# Altium schematic symbol library IC.SchLib: 97 symbols
Pins are listed as number, name and electrical type; pins without a type are passive.

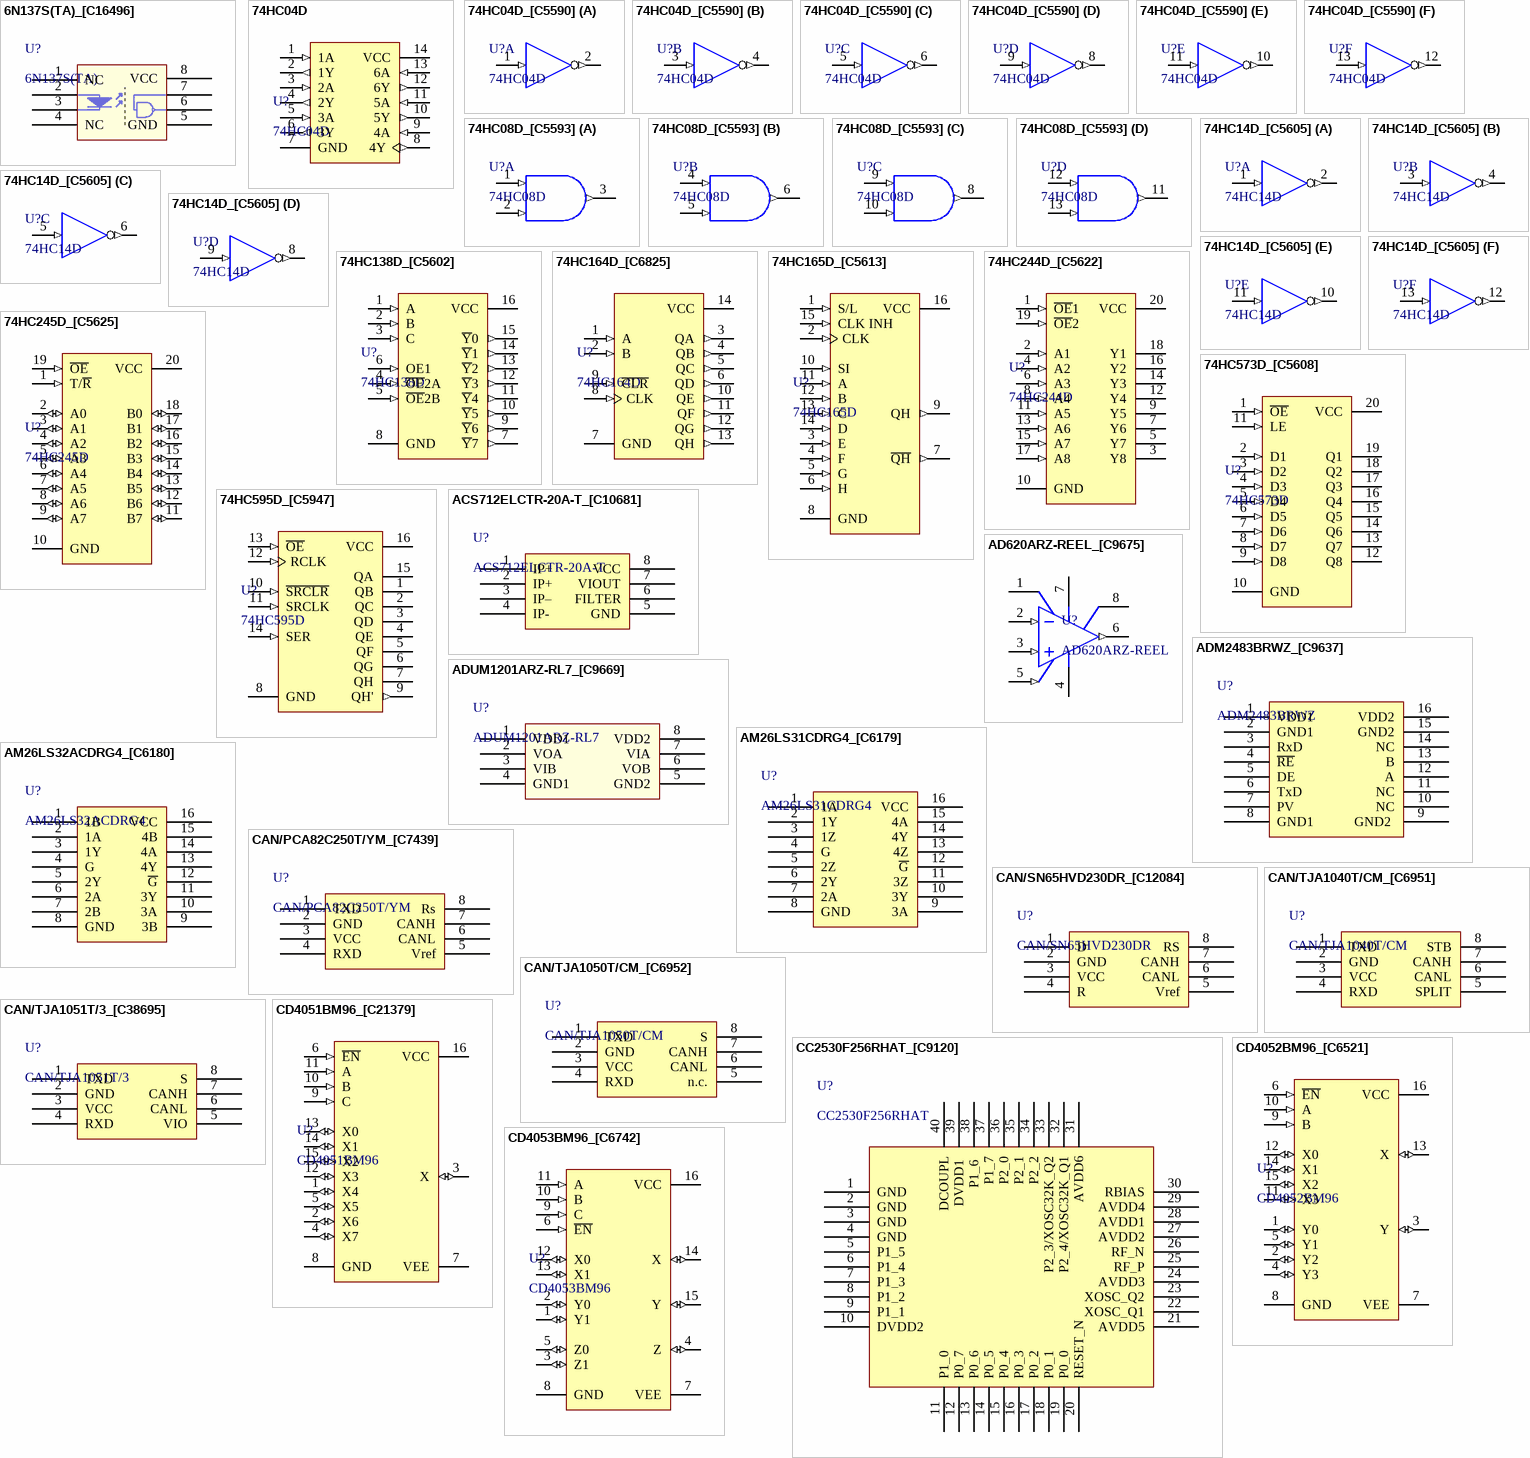
[diagram p0: symbols 6N137S(TA)_[C16496] to CD4053BM96_[C6742]]

## 6N137S(TA)_[C16496]
designator U?, comment 6N137S(TA)
贴片光耦; ComponentLink1Description: 供应商链接; ComponentLink1URL: http://www.szlcsc.com/product/details_17178.html; Package: SMD-8_6.3mm; Supplier: LC; SuppliersPartNumber: C16496
footprint SMD-8_6.3mm
pins: 1 NC, 2 A "Anode", 3 K "Cathode", 4 NC, 5 GND, 6 VO, 7 VE, 8 VCC

## 74HC04D
designator U?
74系列逻辑芯片,反相器; ComponentLink1Description: 供应商链接; ComponentLink1URL: http://www.szlcsc.com/product/details_7297.html; Package: SOIC-14_150mil; Supplier: LC; SuppliersPartNumber: C6825
footprint SOIC-14_150mil
pins: 1 1A (in), 2 1Y (out), 3 2A (in), 4 2Y (out), 5 3A (in), 6 3Y (out), 7 GND (power), 8 4Y (out), 9 4A (in), 10 5Y (out), 11 5A (in), 12 6Y (out), 13 6A (in), 14 VCC (power)

## 74HC04D_[C5590]
designator U?, comment 74HC04D
74系列逻辑芯片; ComponentLink1Description: 供应商链接; ComponentLink1URL: http://www.szlcsc.com/product/details_6041.html; Package: SOIC-14_150mil; Supplier: LC; SuppliersPartNumber: C5590
footprint SOIC-14_150mil
pins on every part: 7 GND (power) hidden, 14 VDD (power) hidden
part A pins: 1 A (in), 2 Y (out)
part B pins: 3 A (in), 4 Y (out)
part C pins: 5 A (in), 6 Y (out)
part D pins: 8 Y (out), 9 A (in)
part E pins: 10 Y (out), 11 A (in)
part F pins: 12 Y (out), 13 A (in)

## 74HC08D_[C5593]
designator U?, comment 74HC08D
74系列逻辑芯片; ComponentLink1Description: 供应商链接; ComponentLink1URL: http://www.szlcsc.com/product/details_6044.html; Package: SOIC-14_150mil; Supplier: LC; SuppliersPartNumber: C5593
footprint SOIC-14_150mil
pins on every part: 7 GND (power) hidden, 14 VDD (power) hidden
part A pins: 1 A (in), 2 B (in), 3 Y (out)
part B pins: 4 A (in), 5 B (in), 6 Y (out)
part C pins: 8 Y (out), 9 A (in), 10 B (in)
part D pins: 11 Y (out), 12 A (in), 13 B (in)

## 74HC14D_[C5605]
designator U?, comment 74HC14D
74系列逻辑芯片; ComponentLink1Description: 供应商链接; ComponentLink1URL: http://www.szlcsc.com/product/details_6056.html; Package: SOIC-14_150mil; Supplier: LC; SuppliersPartNumber: C5605
footprint SOIC-14_150mil
pins on every part: 7 GND (power) hidden, 14 VDD (power) hidden
part A pins: 1 A (in), 2 Y (out)
part B pins: 3 A (in), 4 Y (out)
part C pins: 5 A (in), 6 Y (out)
part D pins: 8 Y (out), 9 A (in)
part E pins: 10 Y (out), 11 A (in)
part F pins: 12 Y (out), 13 A (in)

## 74HC138D_[C5602]
designator U?, comment 74HC138D
74系列逻辑芯片; ComponentLink1Description: 供应商链接; ComponentLink1URL: http://www.szlcsc.com/product/details_6053.html; Package: SOIC-16_150mil; Supplier: LC; SuppliersPartNumber: C5602
footprint SOIC-16_150mil
pins: 1 A (in), 2 B (in), 3 C (in), 4 ~{OE}2A (in), 5 ~{OE}2B (in), 6 OE1 (in), 7 ~{Y}7 (out), 8 GND (power), 9 ~{Y}6 (out), 10 ~{Y}5 (out), 11 ~{Y}4 (out), 12 ~{Y}3 (out), 13 ~{Y}2 (out), 14 ~{Y}1 (out), 15 ~{Y}0 (out), 16 VCC (power)

## 74HC164D_[C6825]
designator U?, comment 74HC164D
74系列逻辑芯片; ComponentLink1Description: 供应商链接; ComponentLink1URL: http://www.szlcsc.com/product/details_7297.html; Package: SOIC-14_150mil; Supplier: LC; SuppliersPartNumber: C6825
footprint SOIC-14_150mil
pins: 1 A (in), 2 B (in), 3 QA (out), 4 QB (out), 5 QC (out), 6 QD (out), 7 GND (power), 8 CLK (in), 9 ~{CLR} (in), 10 QE (out), 11 QF (out), 12 QG (out), 13 QH (out), 14 VCC (power)

## 74HC165D_[C5613]
designator U?, comment 74HC165D
74系列逻辑芯片; ComponentLink1Description: 供应商链接; ComponentLink1URL: http://www.szlcsc.com/product/details_6064.html; Package: SOIC-16_150mil; Supplier: LC; SuppliersPartNumber: C5613
footprint SOIC-16_150mil
pins: 1 S/L (in), 2 CLK (in), 3 E (in), 4 F (in), 5 G (in), 6 H (in), 7 ~{QH} (out), 8 GND (power), 9 QH (out), 10 SI (in), 11 A (in), 12 B (in), 13 C (in), 14 D (in), 15 CLK INH (in), 16 VCC (power)

## 74HC244D_[C5622]
designator U?, comment 74HC244D
74系列逻辑芯片; ComponentLink1Description: 供应商链接; ComponentLink1URL: http://www.szlcsc.com/product/details_6073.html; Package: SOIC-20_300mil; Supplier: LC; SuppliersPartNumber: C5622
footprint SOIC-20_300mil
pins: 1 ~{OE}1 (in), 2 A1 (in), 3 Y8 (hiz), 4 A2 (in), 5 Y7 (hiz), 6 A3 (in), 7 Y6 (hiz), 8 A4 (in), 9 Y5 (hiz), 10 GND (power), 11 A5 (in), 12 Y4 (hiz), 13 A6 (in), 14 Y3 (hiz), 15 A7 (in), 16 Y2 (hiz), 17 A8 (in), 18 Y1 (hiz), 19 ~{OE}2 (in), 20 VCC (power)

## 74HC245D_[C5625]
designator U?, comment 74HC245D
74系列逻辑芯片; ComponentLink1Description: 供应商链接; ComponentLink1URL: http://www.szlcsc.com/product/details_6076.html; Package: SOIC-20_300mil; Supplier: LC; SuppliersPartNumber: C5625
footprint SOIC-20_300mil
pins: 1 T/~{R} (in), 2 A0 (io), 3 A1 (io), 4 A2 (io), 5 A3 (io), 6 A4 (io), 7 A5 (io), 8 A6 (io), 9 A7 (io), 10 GND (power), 11 B7 (io), 12 B6 (io), 13 B5 (io), 14 B4 (io), 15 B3 (io), 16 B2 (io), 17 B1 (io), 18 B0 (io), 19 ~{OE} (in), 20 VCC (power)

## 74HC573D_[C5608]
designator U?, comment 74HC573D
74系列逻辑芯片; ComponentLink1Description: 供应商链接; ComponentLink1URL: http://www.szlcsc.com/product/details_6059.html; Package: SOIC-20_300mil; Supplier: LC; SuppliersPartNumber: C5608
footprint SOIC-20_300mil
pins: 1 ~{OE} (in), 2 D1 (in), 3 D2 (in), 4 D3 (in), 5 D4 (in), 6 D5 (in), 7 D6 (in), 8 D7 (in), 9 D8 (in), 10 GND (power), 11 LE (in), 12 Q8 (hiz), 13 Q7 (hiz), 14 Q6 (hiz), 15 Q5 (hiz), 16 Q4 (hiz), 17 Q3 (hiz), 18 Q2 (hiz), 19 Q1 (hiz), 20 VCC (power)

## 74HC595D_[C5947]
designator U?, comment 74HC595D
74系列逻辑芯片; ComponentLink1Description: 供应商链接; ComponentLink1URL: http://www.szlcsc.com/product/details_6413.html; Package: SOIC-16_150mil; Supplier: LC; SuppliersPartNumber: C5947
footprint SOIC-16_150mil
pins: 1 QB (hiz), 2 QC (hiz), 3 QD (hiz), 4 QE (hiz), 5 QF (hiz), 6 QG (hiz), 7 QH (hiz), 8 GND (power), 9 QH' (out), 10 ~{SRCLR} (in), 11 SRCLK (in), 12 RCLK (in), 13 ~{OE} (in), 14 SER (in), 15 QA (hiz), 16 VCC (power)

## ACS712ELCTR-20A-T_[C10681]
designator U?, comment ACS712ELCTR-20A-T
传感器; ComponentLink1Description: 供应商链接; ComponentLink1URL: http://www.szlcsc.com/product/details_11225.html; Package: SOIC-8_150mil; Supplier: LC; SuppliersPartNumber: C10681
footprint SOIC-8_150mil
pins: 1 IP+, 2 IP+, 3 IP–, 4 IP-, 5 GND, 6 FILTER, 7 VIOUT, 8 VCC

## AD620ARZ-REEL_[C9675]
designator U?, comment AD620ARZ-REEL
仪放; ComponentLink1Description: 供应商链接; ComponentLink1URL: http://www.szlcsc.com/product/details_10205.html; Package: SOIC-8_150mil; Supplier: LC; SuppliersPartNumber: C9675
footprint SOIC-8_150mil
pins: 1 RG, 2 -IN (in), 3 +IN (in), 4 V- (power), 5 REF (in), 6 OUT (out), 7 V+ (power), 8 RG

## ADM2483BRWZ_[C9637]
designator U?, comment ADM2483BRWZ
接口芯片; ComponentLink1Description: 供应商链接; ComponentLink1URL: http://www.szlcsc.com/product/details_10167.html; Package: SOIC-16_300mil; Supplier: LC; SuppliersPartNumber: C9637
footprint SOIC-16_300mil
pins: 1 VDD1, 2 GND1, 3 RxD, 4 ~{RE}, 5 DE, 6 TxD, 7 PV, 8 GND1 , 9 GND2 , 10 NC, 11 NC, 12 A, 13 B, 14 NC, 15 GND2, 16 VDD2

## ADUM1201ARZ-RL7_[C9669]
designator U?, comment ADUM1201ARZ-RL7
隔离器; ComponentLink1Description: 供应商链接; ComponentLink1URL: http://www.szlcsc.com/product/details_10199.html; Package: SOIC-8_150mil; Supplier: LC; SuppliersPartNumber: C9669
footprint SOIC-8_150mil
pins: 1 VDD1 , 2 VOA, 3 VIB, 4 GND1, 5 GND2, 6 VOB, 7 VIA, 8 VDD2

## AM26LS31CDRG4_[C6179]
designator U?, comment AM26LS31CDRG4
接口芯片; ComponentLink1Description: 供应商链接; ComponentLink1URL: http://www.szlcsc.com/product/details_6645.html; Package: SOIC-16_150mil; Supplier: LC; SuppliersPartNumber: C6179
footprint SOIC-16_150mil
pins: 1 1A, 2 1Y, 3 1Z, 4 G, 5 2Z, 6 2Y, 7 2A, 8 GND, 9 3A, 10 3Y, 11 3Z, 12 ~{G}, 13 4Z, 14 4Y, 15 4A, 16 VCC

## AM26LS32ACDRG4_[C6180]
designator U?, comment AM26LS32ACDRG4
接口芯片; ComponentLink1Description: 供应商链接; ComponentLink1URL: http://www.szlcsc.com/product/details_6646.html; Package: SOIC-16_150mil; Supplier: LC; SuppliersPartNumber: C6180
footprint SOIC-16_150mil
pins: 1 1B, 2 1A, 3 1Y, 4 G, 5 2Y, 6 2A, 7 2B, 8 GND, 9 3B, 10 3A, 11 3Y, 12 ~{G}, 13 4Y, 14 4A, 15 4B, 16 VCC

## CAN/PCA82C250T/YM_[C7439]
designator U?, comment CAN/PCA82C250T/YM
CAN; ComponentLink1Description: 供应商链接; ComponentLink1URL: http://www.szlcsc.com/product/details_7916.html; Package: SOIC-8_150mil; Supplier: LC; SuppliersPartNumber: C7439
footprint SOIC-8_150mil
pins: 1 TXD, 2 GND, 3 VCC, 4 RXD, 5 Vref, 6 CANL, 7 CANH, 8 Rs

## CAN/SN65HVD230DR_[C12084]
designator U?, comment CAN/SN65HVD230DR
CAN; ComponentLink1Description: 供应商链接; ComponentLink1URL: http://www.szlcsc.com/product/details_12661.html; Package: SOIC-8_150mil; Supplier: LC; SuppliersPartNumber: C12084
footprint SOIC-8_150mil
pins: 1 D, 2 GND, 3 VCC, 4 R, 5 Vref, 6 CANL, 7 CANH, 8 RS

## CAN/TJA1040T/CM_[C6951]
designator U?, comment CAN/TJA1040T/CM
CAN; ComponentLink1Description: 供应商链接; ComponentLink1URL: http://www.szlcsc.com/product/details_7423.html; Package: SOIC-8_150mil; Supplier: LC; SuppliersPartNumber: C6951
footprint SOIC-8_150mil
pins: 1 TXD, 2 GND, 3 VCC, 4 RXD, 5 SPLIT, 6 CANL, 7 CANH, 8 STB

## CAN/TJA1050T/CM_[C6952]
designator U?, comment CAN/TJA1050T/CM
CAN; ComponentLink1Description: 供应商链接; ComponentLink1URL: http://www.szlcsc.com/product/details_7424.html; Package: SOIC-8_150mil; Supplier: LC; SuppliersPartNumber: C6952
footprint SOIC-8_150mil
pins: 1 TXD, 2 GND, 3 VCC, 4 RXD, 5 n.c., 6 CANL, 7 CANH, 8 S

## CAN/TJA1051T/3_[C38695]
designator U?, comment CAN/TJA1051T/3
CAN; ComponentLink1Description: 供应商链接; ComponentLink1URL: http://www.szlcsc.com/product/details_39678.html; Package: SOIC-8_150mil; Supplier: LC; SuppliersPartNumber: C38695
footprint SOIC-8_150mil
pins: 1 TXD, 2 GND, 3 VCC, 4 RXD, 5 VIO, 6 CANL, 7 CANH, 8 S

## CC2530F256RHAT_[C9120]
designator U?, comment CC2530F256RHAT
无线; ComponentLink1Description: 供应商链接; ComponentLink1URL: http://www.szlcsc.com/product/details_9643.html; Package: QFN-40_6x6x05P; Supplier: LC; SuppliersPartNumber: C9120
footprint QFN-40_6x6x05P
pins: 1 GND, 2 GND, 3 GND, 4 GND, 5 P1_5, 6 P1_4, 7 P1_3, 8 P1_2, 9 P1_1, 10 DVDD2, 11 P1_0, 12 P0_7, 13 P0_6, 14 P0_5, 15 P0_4, 16 P0_3, 17 P0_2, 18 P0_1, 19 P0_0, 20 RESET_N, 21 AVDD5, 22 XOSC_Q1, 23 XOSC_Q2, 24 AVDD3, 25 RF_P, 26 RF_N, 27 AVDD2, 28 AVDD1, 29 AVDD4, 30 RBIAS, 31 AVDD6, 32 P2_4/XOSC32K_Q1, 33 P2_3/XOSC32K_Q2, 34 P2_2, 35 P2_1, 36 P2_0, 37 P1_7, 38 P1_6 , 39 DVDD1 , 40 DCOUPL

## CD4051BM96_[C21379]
designator U?, comment CD4051BM96
4000系列逻辑芯片; ComponentLink1Description: 供应商链接; ComponentLink1URL: http://www.szlcsc.com/product/details_22096.html; Package: SOIC-16_150mil; Supplier: LC; SuppliersPartNumber: C21379
footprint SOIC-16_150mil
pins: 1 X4 (io), 2 X6 (io), 3 X (io), 4 X7 (io), 5 X5 (io), 6 ~{EN} (in), 7 VEE (power), 8 GND (power), 9 C (in), 10 B (in), 11 A (in), 12 X3 (io), 13 X0 (io), 14 X1 (io), 15 X2 (io), 16 VCC (power)

## CD4052BM96_[C6521]
designator U?, comment CD4052BM96
4000系列逻辑芯片; ComponentLink1Description: 供应商链接; ComponentLink1URL: http://www.szlcsc.com/product/details_6986.html; Package: SOIC-16_150mil; Supplier: LC; SuppliersPartNumber: C6521
footprint SOIC-16_150mil
pins: 1 Y0 (io), 2 Y2 (io), 3 Y (io), 4 Y3 (io), 5 Y1 (io), 6 ~{EN} (in), 7 VEE (power), 8 GND (power), 9 B (in), 10 A (in), 11 X3 (io), 12 X0 (io), 13 X (io), 14 X1 (io), 15 X2 (io), 16 VCC (power)

## CD4053BM96_[C6742]
designator U?, comment CD4053BM96
4000系列逻辑芯片; ComponentLink1Description: 供应商链接; ComponentLink1URL: http://www.szlcsc.com/product/details_7208.html; Package: SOIC-16_150mil; Supplier: LC; SuppliersPartNumber: C6742
footprint SOIC-16_150mil
pins: 1 Y1 (io), 2 Y0 (io), 3 Z1 (io), 4 Z (io), 5 Z0 (io), 6 ~{EN} (in), 7 VEE (power), 8 GND (power), 9 C (in), 10 B (in), 11 A (in), 12 X0 (io), 13 X1 (io), 14 X (io), 15 Y (io), 16 VCC (power)

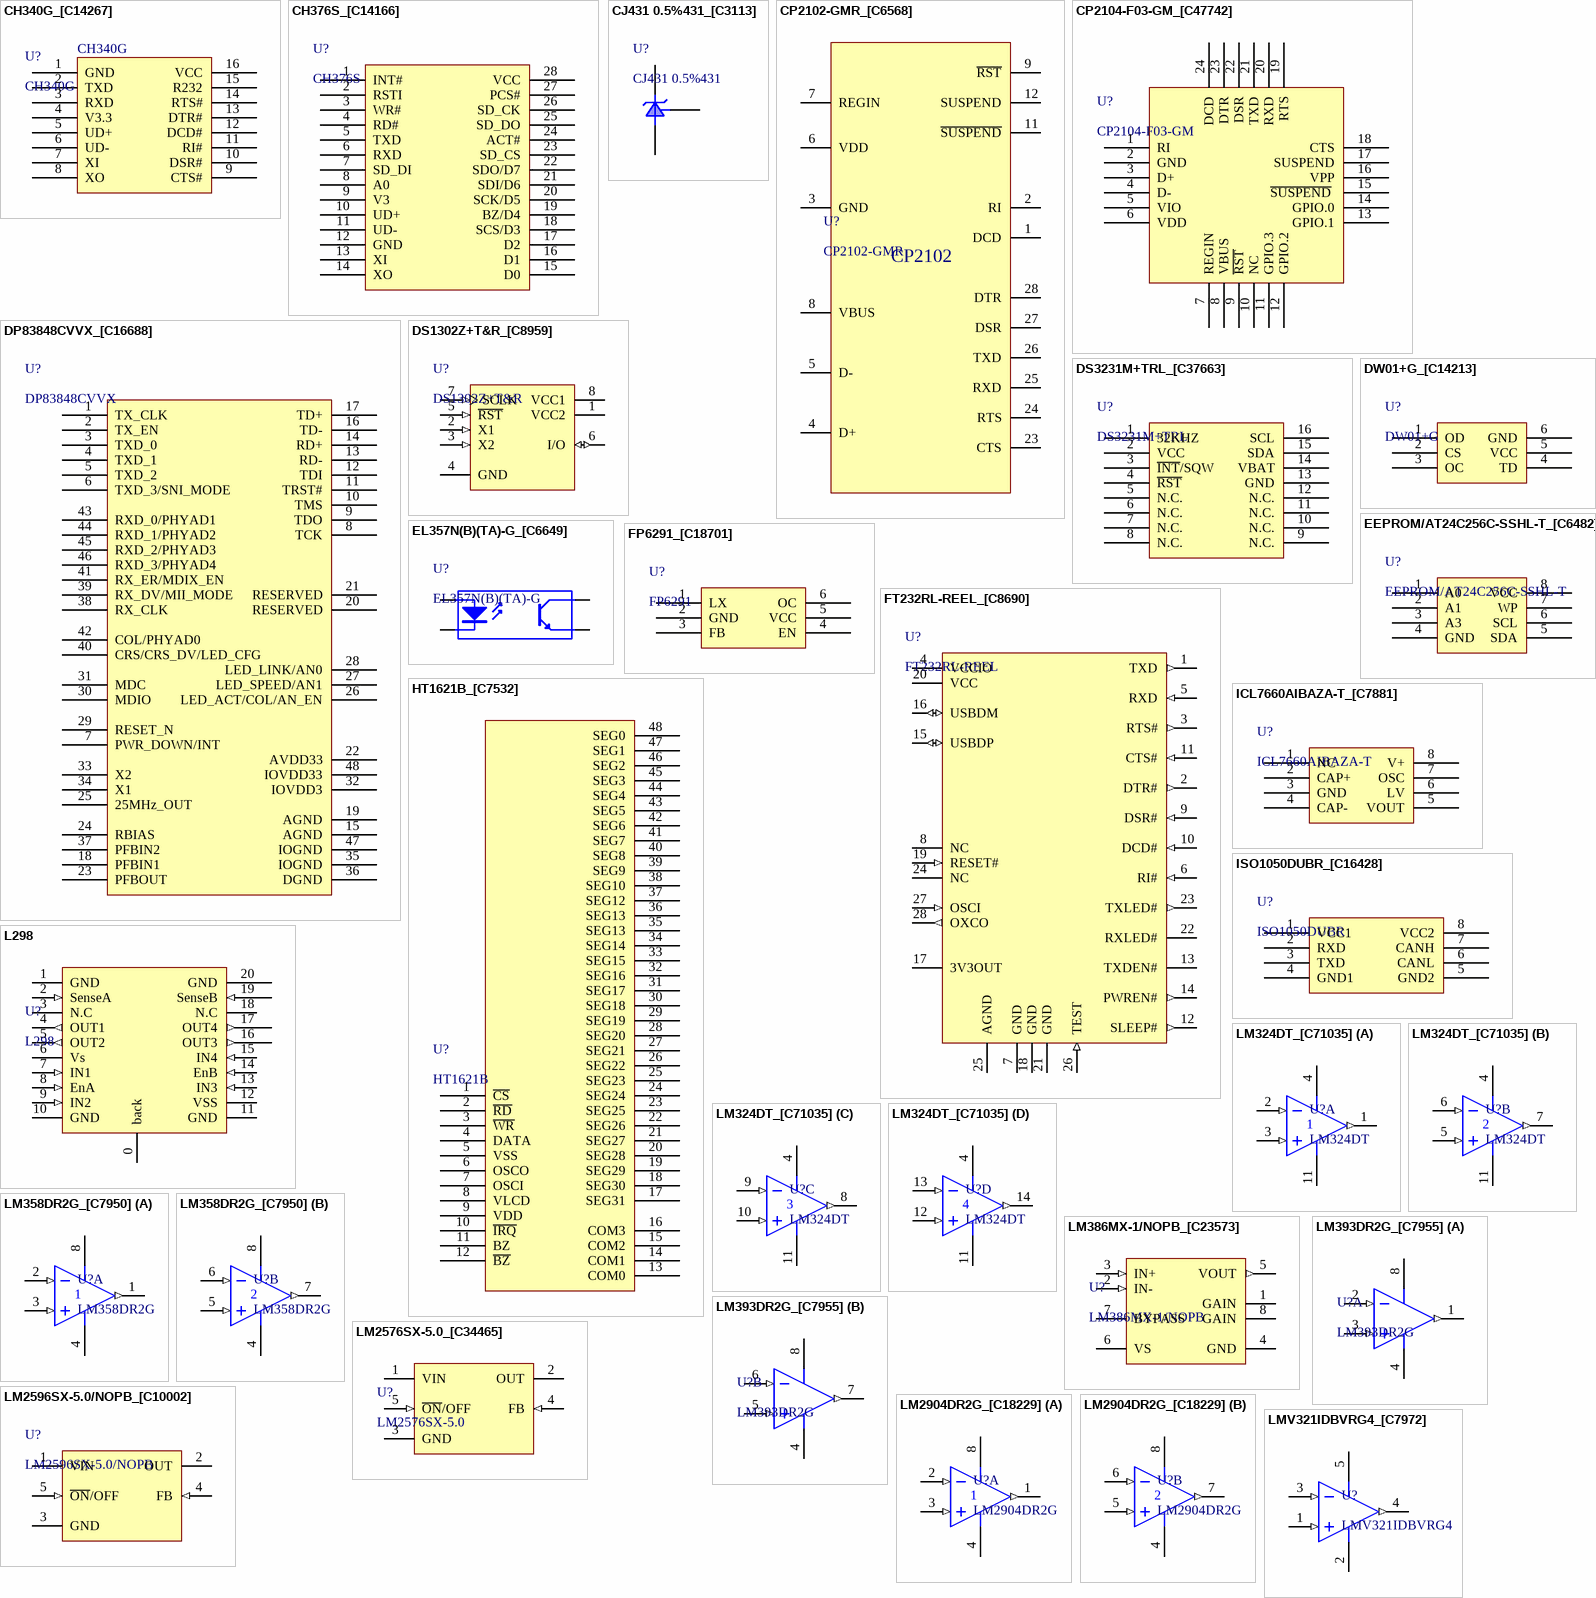
[diagram p1: symbols CH340G_[C14267] to LMV321IDBVRG4_[C7972]]

## CH340G_[C14267]
designator U?, comment CH340G
USB; ComponentLink1Description: 供应商链接; ComponentLink1URL: http://www.szlcsc.com/product/details_14927.html; Package: SOIC-16_150mil; Supplier: LC; SuppliersPartNumber: C14267
footprint SOIC-16_150mil
pins: 1 GND, 2 TXD, 3 RXD, 4 V3.3, 5 UD+, 6 UD-, 7 XI, 8 XO, 9 CTS#, 10 DSR#, 11 RI#, 12 DCD#, 13 DTR#, 14 RTS#, 15 R232, 16 VCC

## CH376S_[C14166]
designator U?, comment CH376S
USB; ComponentLink1Description: 供应商链接; ComponentLink1URL: http://www.szlcsc.com/product/details_14823.html; Package: SOIC-28_300mil; Supplier: LC; SuppliersPartNumber: C14166
footprint SOIC-28_300mil
pins: 1 INT#, 2 RSTI, 3 WR#, 4 RD#, 5 TXD, 6 RXD, 7 SD_DI, 8 A0, 9 V3, 10 UD+, 11 UD-, 12 GND, 13 XI, 14 XO, 15 D0, 16 D1, 17 D2, 18 SCS/D3, 19 BZ/D4, 20 SCK/D5, 21 SDI/D6, 22 SDO/D7, 23 SD_CS, 24 ACT#, 25 SD_DO, 26 SD_CK, 27 PCS#, 28 VCC

## CJ431 0.5%431_[C3113]
designator U?, comment CJ431 0.5%431
电压基准; ComponentLink1Description: 供应商链接; ComponentLink1URL: http://www.szlcsc.com/product/details_3500.html; Package: SOT-23; Supplier: LC; SuppliersPartNumber: C3113
footprint SOT-23(SOT-23-3)
pins: 1 R, 2 K, 3 A

## CP2102-GMR_[C6568]
designator U?, comment CP2102-GMR
USB; ComponentLink1Description: 供应商链接; ComponentLink1URL: http://www.szlcsc.com/product/details_7033.html; Package: QFN-28_5x5x05P; Supplier: LC; SuppliersPartNumber: C6568
footprint QFN-28_5x5x05P
pins: 1 DCD, 2 RI, 3 GND, 4 D+, 5 D-, 6 VDD, 7 REGIN, 8 VBUS, 9 ~{RST}, 11 ~{SUSPEND}, 12 SUSPEND, 23 CTS, 24 RTS, 25 RXD, 26 TXD, 27 DSR, 28 DTR
text: CP2102

## CP2104-F03-GM_[C47742]
designator U?, comment CP2104-F03-GM
USB; ComponentLink1Description: 供应商链接; ComponentLink1URL: http://www.szlcsc.com/product/details_48747.html; Package: QFN-24_4x4x05P; Supplier: LC; SuppliersPartNumber: C47742
footprint QFN-24_4x4x05P
pins: 1 RI, 2 GND, 3 D+, 4 D-, 5 VIO, 6 VDD, 7 REGIN, 8 VBUS, 9 ~{RST}, 10 NC, 11 GPIO.3, 12 GPIO.2, 13 GPIO.1, 14 GPIO.0, 15 ~{SUSPEND} , 16 VPP, 17 SUSPEND, 18 CTS, 19 RTS, 20 RXD, 21 TXD, 22 DSR, 23 DTR, 24 DCD

## DP83848CVVX_[C16688]
designator U?, comment DP83848CVVX
接口芯片; ComponentLink1Description: 供应商链接; ComponentLink1URL: http://www.szlcsc.com/product/details_17371.html; Package: LQFP-48_7x7x05P; Supplier: LC; SuppliersPartNumber: C16688
footprint LQFP-48_7x7x05P
pins: 1 TX_CLK, 2 TX_EN, 3 TXD_0, 4 TXD_1, 5 TXD_2, 6 TXD_3/SNI_MODE, 7 PWR_DOWN/INT, 8 TCK, 9 TDO, 10 TMS, 11 TRST#, 12 TDI, 13 RD-, 14 RD+, 15 AGND, 16 TD-, 17 TD+, 18 PFBIN1, 19 AGND, 20 RESERVED, 21 RESERVED, 22 AVDD33, 23 PFBOUT, 24 RBIAS, 25 25MHz_OUT, 26 LED_ACT/COL/AN_EN, 27 LED_SPEED/AN1, 28 LED_LINK/AN0, 29 RESET_N, 30 MDIO, 31 MDC, 32 IOVDD3, 33 X2, 34 X1, 35 IOGND, 36 DGND, 37 PFBIN2, 38 RX_CLK, 39 RX_DV/MII_MODE, 40 CRS/CRS_DV/LED_CFG, 41 RX_ER/MDIX_EN, 42 COL/PHYAD0, 43 RXD_0/PHYAD1, 44 RXD_1/PHYAD2, 45 RXD_2/PHYAD3, 46 RXD_3/PHYAD4, 47 IOGND, 48 IOVDD33

## DS1302Z+T&R_[C8959]
designator U?, comment DS1302Z+T&R
实时时钟; ComponentLink1Description: 供应商链接; ComponentLink1URL: http://www.szlcsc.com/product/details_9478.html; Package: SOIC-8_150mil; Supplier: LC; SuppliersPartNumber: C8959
footprint SOIC-8_150mil
pins: 1 VCC2 (power), 2 X1 (in), 3 X2 (in), 4 GND (power), 5 ~{RST} (in), 6 I/O (io), 7 SCLK (in), 8 VCC1 (power)

## DS3231M+TRL_[C37663]
designator U?, comment DS3231M+TRL
实时时钟; ComponentLink1Description: 供应商链接; ComponentLink1URL: http://www.szlcsc.com/product/details_38643.html; Package: SOIC-16_300mil; Supplier: LC; SuppliersPartNumber: C37663
footprint SOIC-16_300mil
pins: 1 32KHZ, 2 VCC, 3 ~{INT}/SQW, 4 ~{RST}, 5 N.C., 6 N.C., 7 N.C., 8 N.C., 9 N.C., 10 N.C., 11 N.C., 12 N.C., 13 GND, 14 VBAT, 15 SDA, 16 SCL

## DW01+G_[C14213]
designator U?, comment DW01+G
电池保护芯片; ComponentLink1Description: 供应商链接; ComponentLink1URL: http://www.szlcsc.com/product/details_14870.html; Package: SOT-23-6; Supplier: LC; SuppliersPartNumber: C14213
footprint SOT-23-6
pins: 1 OD, 2 CS, 3 OC, 4 TD, 5 VCC, 6 GND

## EEPROM/AT24C256C-SSHL-T_[C6482]
designator U?, comment EEPROM/AT24C256C-SSHL-T
EEPROM; ComponentLink1Description: 供应商链接; ComponentLink1URL: http://www.szlcsc.com/product/details_6947.html; Package: SOIC-8_150mil; Supplier: LC; SuppliersPartNumber: C6482
footprint SOIC-8_150mil
pins: 1 A0, 2 A1, 3 A3, 4 GND, 5 SDA, 6 SCL, 7 WP, 8 VCC

## EL357N(B)(TA)-G_[C6649]
designator U?, comment EL357N(B)(TA)-G
贴片光耦; ComponentLink1Description: 供应商链接; ComponentLink1URL: http://www.szlcsc.com/product/details_7114.html; Package: SOP-4_P2.54; Supplier: LC; SuppliersPartNumber: C6649
footprint SOP-4_P2.54
pins: 1 A "Anode", 2 K "Cathode", 3 E "Emitter", 4 C "Collector"

## FP6291_[C18701]
designator U?, comment FP6291
DC-DC芯片; ComponentLink1Description: 供应商链接; ComponentLink1URL: http://www.szlcsc.com/product/details_19404.html; Package: SOT-23-6; Supplier: LC; SuppliersPartNumber: C18701
footprint SOT-23-6
pins: 1 LX, 2 GND, 3 FB, 4 EN, 5 VCC, 6 OC

## FT232RL-REEL_[C8690]
designator U?, comment FT232RL-REEL
USB; ComponentLink1Description: 供应商链接; ComponentLink1URL: http://www.szlcsc.com/product/details_9194.html; Package: SSOP-28_208mil; Supplier: LC; SuppliersPartNumber: C8690
footprint SSOP-28_208mil
pins: 1 TXD (out), 2 DTR# (out), 3 RTS# (out), 4 VCCIO (power), 5 RXD (in), 6 RI# (in), 7 GND (power), 8 NC, 9 DSR# (in), 10 DCD# (in), 11 CTS# (in), 12 SLEEP# (out), 13 TXDEN# (oc), 14 PWREN# (out), 15 USBDP (io), 16 USBDM (io), 17 3V3OUT (power), 18 GND (power), 19 RESET# (in), 20 VCC (power), 21 GND (power), 22 RXLED# (oc), 23 TXLED# (out), 24 NC, 25 AGND (power), 26 TEST (in), 27 OSCI (in), 28 OXCO (out)

## HT1621B_[C7532]
designator U?, comment HT1621B
LCD驱动; ComponentLink1Description: 供应商链接; ComponentLink1URL: http://www.szlcsc.com/product/details_8009.html; Package: LQFP-48_7x7x05P; Supplier: LC; SuppliersPartNumber: C7532
footprint LQFP-48_7x7x05P
pins: 1 ~{CS}, 2 ~{RD}, 3 ~{WR}, 4 DATA, 5 VSS, 6 OSCO, 7 OSCI, 8 VLCD, 9 VDD, 10 ~{IRQ}, 11 BZ, 12 ~{BZ}, 13 COM0, 14 COM1, 15 COM2, 16 COM3, 17 SEG31, 18 SEG30, 19 SEG29, 20 SEG28, 21 SEG27, 22 SEG26, 23 SEG25, 24 SEG24, 25 SEG23, 26 SEG22, 27 SEG21, 28 SEG20, 29 SEG19, 30 SEG18, 31 SEG17, 32 SEG16, 33 SEG15, 34 SEG14, 35 SEG13, 36 SEG13, 37 SEG12, 38 SEG10, 39 SEG9, 40 SEG8, 41 SEG7, 42 SEG6, 43 SEG5, 44 SEG4, 45 SEG3, 46 SEG2, 47 SEG1, 48 SEG0

## ICL7660AIBAZA-T_[C7881]
designator U?, comment ICL7660AIBAZA-T
电源芯片; ComponentLink1Description: 供应商链接; ComponentLink1URL: http://www.szlcsc.com/product/details_8358.html; Package: SOIC-8_150mil; Supplier: LC; SuppliersPartNumber: C7881
footprint SOIC-8_150mil
pins: 1 NC, 2 CAP+, 3 GND, 4 CAP-, 5 VOUT, 6 LV, 7 OSC, 8 V+

## ISO1050DUBR_[C16428]
designator U?, comment ISO1050DUBR
CAN; ComponentLink1Description: 供应商链接; ComponentLink1URL: http://www.szlcsc.com/product/details_17110.html; Package: SMD-8_6.3mm; Supplier: LC; SuppliersPartNumber: C16428
footprint SMD-8_6.3mm
pins: 1 VCC1, 2 RXD, 3 TXD, 4 GND1, 5 GND2, 6 CANL, 7 CANH, 8 VCC2

## L298
designator U?
电机驱动; ComponentLink1Description: 供应商链接; ComponentLink1URL: http://www.szlcsc.com/product/details_24309.html; Package: SOIC-8_150mil; Supplier: LC; SuppliersPartNumber: C23573
footprint PowerSO-20
pins: 0 back (power), 1 GND (power), 2 SenseA (in), 3 N.C (oe), 4 OUT1 (out), 5 OUT2 (out), 6 Vs (power), 7 IN1 (in), 8 EnA (in), 9 IN2 (in), 10 GND (power), 11 GND (power), 12 VSS (power), 13 IN3 (in), 14 EnB (in), 15 IN4 (in), 16 OUT3 (out), 17 OUT4 (out), 18 N.C (power), 19 SenseB (in), 20 GND (power)

## LM324DT_[C71035]
designator U?, comment LM324DT
运放; ComponentLink1Description: 供应商链接; ComponentLink1URL: http://www.szlcsc.com/product/details_72134.html; Package: SOIC-14_150mil; Supplier: LC; SuppliersPartNumber: C71035
footprint SOIC-14_150mil
pins on every part: 4 V+ (power), 11 V- (power)
part A pins: 1 OUT (out), 2 IN- (in), 3 IN+ (in)
part B pins: 5 IN+ (in), 6 IN- (in), 7 OUT (out)
part C pins: 8 OUT (out), 9 IN- (in), 10 IN+ (in)
part D pins: 12 IN+ (in), 13 IN- (in), 14 OUT (out)

## LM358DR2G_[C7950]
designator U?, comment LM358DR2G
通用运放; ComponentLink1Description: 供应商链接; ComponentLink1URL: http://www.szlcsc.com/product/details_8427.html; Package: SOIC-8; Supplier: LC; SuppliersPartNumber: C7950
footprint SOIC-8_150mil
pins on every part: 4 V- (power), 8 V+ (power)
part A pins: 1 OUT (out), 2 IN- (in), 3 IN+ (in)
part B pins: 5 IN+ (in), 6 IN- (in), 7 OUT (out)

## LM386MX-1/NOPB_[C23573]
designator U?, comment LM386MX-1/NOPB
功放; ComponentLink1Description: 供应商链接; ComponentLink1URL: http://www.szlcsc.com/product/details_24309.html; Package: SOIC-8_150mil; Supplier: LC; SuppliersPartNumber: C23573
footprint SOIC-8_150mil
pins: 1 GAIN, 2 IN- (in), 3 IN+ (in), 4 GND (power), 5 VOUT (out), 6 VS (power), 7 BYPASS, 8 GAIN

## LM393DR2G_[C7955]
designator U?, comment LM393DR2G
电压比较器; ComponentLink1Description: 供应商链接; ComponentLink1URL: http://www.szlcsc.com/product/details_8432.html; Package: SOIC-8; Supplier: LC; SuppliersPartNumber: C7955
footprint SOIC-8_150mil
pins on every part: 4 GND (power), 8 V+ (power)
part A pins: 1 OUT (out), 2 IN- (in), 3 IN+ (in)
part B pins: 5 IN+ (in), 6 IN- (in), 7 OUT (out)

## LM2576SX-5.0_[C34465]
designator U?, comment LM2576SX-5.0
DC-DC芯片; ComponentLink1Description: 供应商链接; ComponentLink1URL: http://www.szlcsc.com/product/details_35434.html; Package: TO-263-5; Supplier: LC; SuppliersPartNumber: C34465
footprint TO-263-5
pins: 1 VIN (power), 2 OUT (power), 3 GND (power), 4 FB (in), 5 ~{ON}/OFF (in)

## LM2596SX-5.0/NOPB_[C10002]
designator U?, comment LM2596SX-5.0/NOPB
DC-DC芯片; ComponentLink1Description: 供应商链接; ComponentLink1URL: http://www.szlcsc.com/product/details_10538.html; Package: TO-263-5; Supplier: LC; SuppliersPartNumber: C10002
footprint TO-263-5
pins: 1 VIN (power), 2 OUT (power), 3 GND (power), 4 FB (in), 5 ~{ON}/OFF (in)

## LM2904DR2G_[C18229]
designator U?, comment LM2904DR2G
运放; ComponentLink1Description: 供应商链接; ComponentLink1URL: http://www.szlcsc.com/product/details_18922.html; Package: SOIC-8_150mil; Supplier: LC; SuppliersPartNumber: C18229
footprint SOIC-8_150mil
pins on every part: 4 V- (power), 8 V+ (power)
part A pins: 1 OUT (out), 2 IN- (in), 3 IN+ (in)
part B pins: 5 IN+ (in), 6 IN- (in), 7 OUT (out)

## LMV321IDBVRG4_[C7972]
designator U?, comment LMV321IDBVRG4
运放; ComponentLink1Description: 供应商链接; ComponentLink1URL: http://www.szlcsc.com/product/details_8449.html; Package: SOT-23-5; Supplier: LC; SuppliersPartNumber: C7972
footprint SOT-23-5
pins: 1 IN+ (in), 2 V- (power), 3 IN- (in), 4 OUT (out), 5 V+ (power)

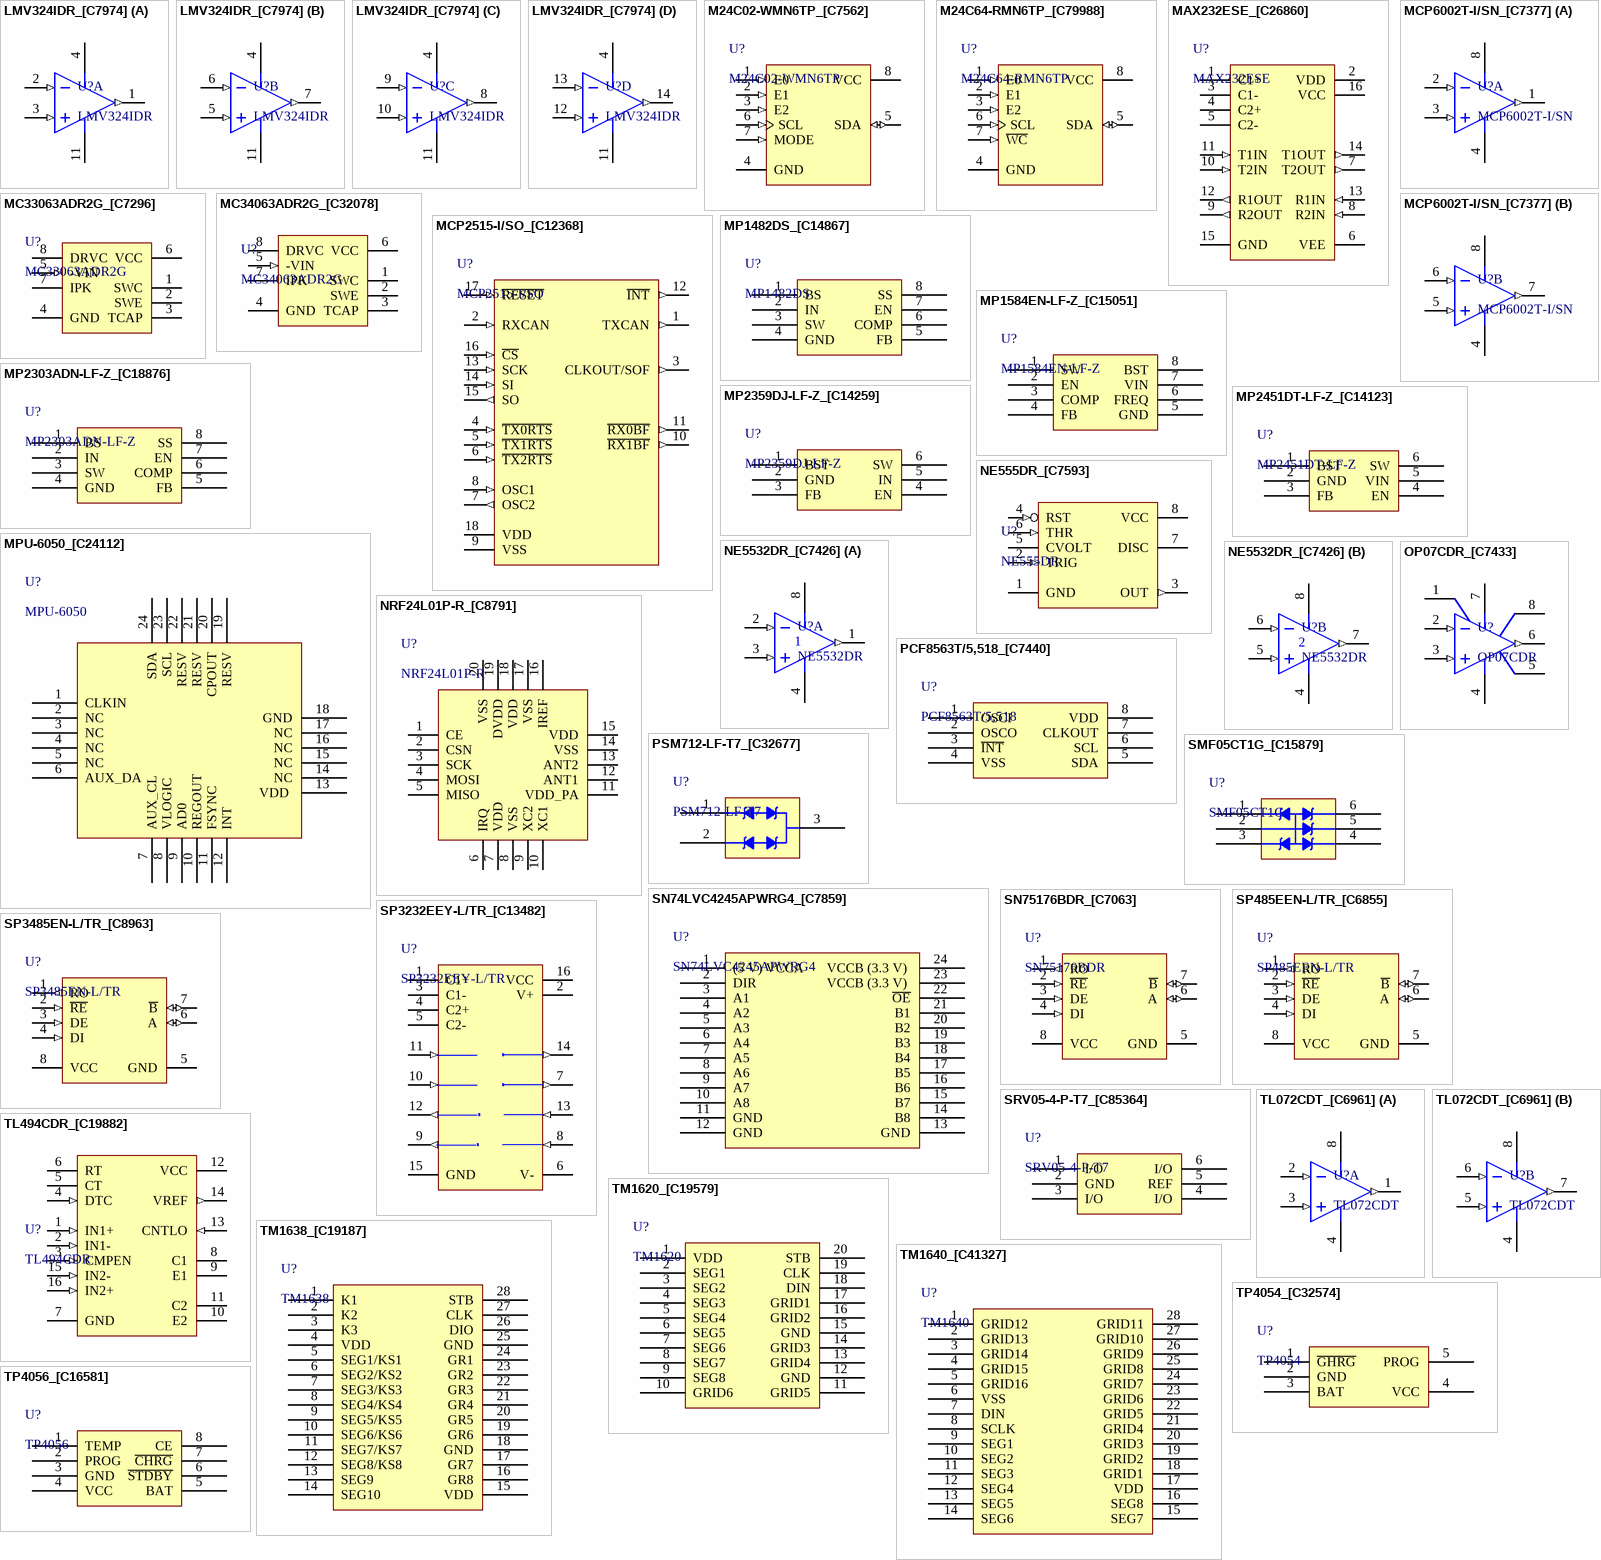
[diagram p2: symbols LMV324IDR_[C7974] to TP4056_[C16581]]

## LMV324IDR_[C7974]
designator U?, comment LMV324IDR
运放; ComponentLink1Description: 供应商链接; ComponentLink1URL: http://www.szlcsc.com/product/details_8451.html; Package: SOIC-14_150mil; Supplier: LC; SuppliersPartNumber: C7974
footprint SOIC-14_150mil
pins on every part: 4 V+ (power), 11 V- (power)
part A pins: 1 OUTA (out), 2 INA- (in), 3 INA+ (in)
part B pins: 5 INB+ (in), 6 INB- (in), 7 OUTB (out)
part C pins: 8 OUTC (out), 9 INC- (in), 10 INC+ (in)
part D pins: 12 IND+ (in), 13 IND- (in), 14 OUTD (out)

## M24C02-WMN6TP_[C7562]
designator U?, comment M24C02-WMN6TP
EEPROM; ComponentLink1Description: 供应商链接; ComponentLink1URL: http://www.szlcsc.com/product/details_8039.html; Package: SOIC-8_150mil; Supplier: LC; SuppliersPartNumber: C7562
footprint SOIC-8_150mil
pins: 1 E0 (in), 2 E1 (in), 3 E2 (in), 4 GND (power), 5 SDA (io), 6 SCL (in), 7 MODE (in), 8 VCC (power)

## M24C64-RMN6TP_[C79988]
designator U?, comment M24C64-RMN6TP
EEPROM; ComponentLink1Description: 供应商链接; ComponentLink1URL: http://www.szlcsc.com/product/details_81133.html; Package: SOIC-8_150mil; Supplier: LC; SuppliersPartNumber: C79988
footprint SOIC-8_150mil
pins: 1 E0 (in), 2 E1 (in), 3 E2 (in), 4 GND (power), 5 SDA (io), 6 SCL (in), 7 ~{WC} (in), 8 VCC (power)

## MAX232ESE_[C26860]
designator U?, comment MAX232ESE
RS232; ComponentLink1Description: 供应商链接; ComponentLink1URL: http://www.szlcsc.com/product/details_27608.html; Package: SOIC-16_150mil; Supplier: LC; SuppliersPartNumber: C26860
footprint SOIC-16_150mil
pins: 1 C1+, 2 VDD (power), 3 C1-, 4 C2+, 5 C2-, 6 VEE (power), 7 T2OUT (out), 8 R2IN (in), 9 R2OUT (out), 10 T2IN (in), 11 T1IN (in), 12 R1OUT (out), 13 R1IN (in), 14 T1OUT (out), 15 GND (power), 16 VCC (power)

## MC33063ADR2G_[C7296]
designator U?, comment MC33063ADR2G
开关电源; ComponentLink1Description: 供应商链接; ComponentLink1URL: http://www.szlcsc.com/product/details_7773.html; Package: SOIC-8_150mil; Supplier: LC; SuppliersPartNumber: C7296
footprint SOIC-8_150mil
pins: 1 SWC (oc), 2 SWE (oe), 3 TCAP, 4 GND (power), 5 -VIN (in), 6 VCC (power), 7 IPK, 8 DRVC (oc)

## MC34063ADR2G_[C32078]
designator U?, comment MC34063ADR2G
DC-DC芯片; ComponentLink1Description: 供应商链接; ComponentLink1URL: http://www.szlcsc.com/product/details_33041.html; Package: SOIC-8; Supplier: LC; SuppliersPartNumber: C32078
footprint SOIC-8_150mil
pins: 1 SWC (oc), 2 SWE (oe), 3 TCAP, 4 GND (power), 5 -VIN (in), 6 VCC (power), 7 IPK, 8 DRVC (oc)

## MCP2515-I/SO_[C12368]
designator U?, comment MCP2515-I/SO
CAN; ComponentLink1Description: 供应商链接; ComponentLink1URL: http://www.szlcsc.com/product/details_12992.html; Package: SOIC-18_300mil; Supplier: LC; SuppliersPartNumber: C12368
footprint SOIC-18_300mil
pins: 1 TXCAN (out), 2 RXCAN (in), 3 CLKOUT/SOF (out), 4 ~{TX0RTS} (in), 5 ~{TX1RTS} (in), 6 ~{TX2RTS} (in), 7 OSC2 (out), 8 OSC1 (in), 9 VSS (power), 10 ~{RX1BF} (out), 11 ~{RX0BF} (out), 12 ~{INT} (out), 13 SCK (in), 14 SI (in), 15 SO (out), 16 ~{CS} (in), 17 ~{RESET} (in), 18 VDD (power)

## MCP6002T-I/SN_[C7377]
designator U?, comment MCP6002T-I/SN
运放; ComponentLink1Description: 供应商链接; ComponentLink1URL: http://www.szlcsc.com/product/details_7854.html; Package: SOIC-8_150mil; Supplier: LC; SuppliersPartNumber: C7377
footprint SOIC-8_150mil
pins on every part: 4 VSS (power), 8 VDD (power)
part A pins: 1 VOUTA (out), 2 VINA- (in), 3 VINA+ (in)
part B pins: 5 VINB+ (in), 6 VINB- (in), 7 VOUTB (out)

## MP1482DS_[C14867]
designator U?, comment MP1482DS
电源芯片; ComponentLink1Description: 供应商链接; ComponentLink1URL: http://www.szlcsc.com/product/details_15539.html; Package: SOIC-8_150mil; Supplier: LC; SuppliersPartNumber: C14867
footprint SOIC-8_150mil
pins: 1 BS, 2 IN, 3 SW, 4 GND, 5 FB, 6 COMP, 7 EN, 8 SS

## MP1584EN-LF-Z_[C15051]
designator U?, comment MP1584EN-LF-Z
DC-DC芯片; ComponentLink1Description: 供应商链接; ComponentLink1URL: http://www.szlcsc.com/product/details_15724.html; Package: SOIC-8_EP_150mil; Supplier: LC; SuppliersPartNumber: C15051
footprint SOIC-8_EP_150mil
pins: 1 SW , 2 EN , 3 COMP , 4 FB , 5 GND, 6 FREQ, 7 VIN, 8 BST

## MP2303ADN-LF-Z_[C18876]
designator U?, comment MP2303ADN-LF-Z
DC-DC芯片; ComponentLink1Description: 供应商链接; ComponentLink1URL: http://www.szlcsc.com/product/details_19579.html; Package: SOIC-8_EP_150mil; Supplier: LC; SuppliersPartNumber: C18876
footprint SOIC-8_EP_150mil
pins: 1 BS , 2 IN, 3 SW, 4 GND, 5 FB, 6 COMP, 7 EN, 8 SS

## MP2359DJ-LF-Z_[C14259]
designator U?, comment MP2359DJ-LF-Z
DC-DC芯片; ComponentLink1Description: 供应商链接; ComponentLink1URL: http://www.szlcsc.com/product/details_14917.html; Package: SOT-23-6; Supplier: LC; SuppliersPartNumber: C14259
footprint SOT-23-6
pins: 1 BST, 2 GND, 3 FB, 4 EN, 5 IN, 6 SW

## MP2451DT-LF-Z_[C14123]
designator U?, comment MP2451DT-LF-Z
DC-DC芯片; ComponentLink1Description: 供应商链接; ComponentLink1URL: http://www.szlcsc.com/product/details_14780.html; Package: SOT-23-6; Supplier: LC; SuppliersPartNumber: C14123
footprint SOT-23-6
pins: 1 BST, 2 GND, 3 FB, 4 EN, 5 VIN, 6 SW

## MPU-6050_[C24112]
designator U?, comment MPU-6050
传感器; ComponentLink1Description: 供应商链接; ComponentLink1URL: http://www.szlcsc.com/product/details_24852.html; Package: QFN-24_4x4x05P; Supplier: LC; SuppliersPartNumber: C24112
footprint QFN-24_4x4x05P
pins: 1 CLKIN, 2 NC, 3 NC, 4 NC, 5 NC, 6 AUX_DA, 7 AUX_CL, 8 VLOGIC, 9 AD0, 10 REGOUT, 11 FSYNC, 12 INT, 13 VDD , 14 NC, 15 NC, 16 NC, 17 NC, 18 GND, 19 RESV, 20 CPOUT, 21 RESV, 22 RESV, 23 SCL, 24 SDA

## NE555DR_[C7593]
designator U?, comment NE555DR
时基集成; ComponentLink1Description: 供应商链接; ComponentLink1URL: http://www.szlcsc.com/product/details_8070.html; Package: SOIC-8_150mil; Supplier: LC; SuppliersPartNumber: C7593
footprint SOIC-8_150mil
pins: 1 GND (power), 2 TRIG (in), 3 OUT (out), 4 RST (in), 5 CVOLT, 6 THR (in), 7 DISC (oc), 8 VCC (power)

## NE5532DR_[C7426]
designator U?, comment NE5532DR
功放; ComponentLink1Description: 供应商链接; ComponentLink1URL: http://www.szlcsc.com/product/details_7903.html; Package: SOIC-8_150mil; Supplier: LC; SuppliersPartNumber: C7426
footprint SOIC-8_150mil
pins on every part: 4 V- (power), 8 V+ (power)
part A pins: 1 OUT (out), 2 IN- (in), 3 IN+ (in)
part B pins: 5 IN+ (in), 6 IN- (in), 7 OUT (out)

## NRF24L01P-R_[C8791]
designator U?, comment NRF24L01P-R
无线; ComponentLink1Description: 供应商链接; ComponentLink1URL: http://www.szlcsc.com/product/details_9305.html; Package: QFN-20_4x4x05P; Supplier: LC; SuppliersPartNumber: C8791
footprint QFN-20_4x4x05P
pins: 1 CE, 2 CSN, 3 SCK, 4 MOSI, 5 MISO, 6 IRQ, 7 VDD, 8 VSS, 9 XC2, 10 XC1, 11 VDD_PA, 12 ANT1, 13 ANT2, 14 VSS, 15 VDD, 16 IREF, 17 VSS, 18 VDD, 19 DVDD, 20 VSS

## OP07CDR_[C7433]
designator U?, comment OP07CDR
精密运放; ComponentLink1Description: 供应商链接; ComponentLink1URL: http://www.szlcsc.com/product/details_7910.html; Package: SOIC-8; Supplier: LC; SuppliersPartNumber: C7433
footprint SOIC-8_150mil
pins: 1 VOSTRIM, 2 IN- (in), 3 IN+ (in), 4 V- (power), 5 NC, 6 OUT (out), 7 V+ (power), 8 VOSTRIM

## PCF8563T/5,518_[C7440]
designator U?, comment PCF8563T/5,518
实时时钟; ComponentLink1Description: 供应商链接; ComponentLink1URL: http://www.szlcsc.com/product/details_7917.html; Package: SOIC-8_150mil; Supplier: LC; SuppliersPartNumber: C7440
footprint SOIC-8_150mil
pins: 1 OSCI, 2 OSCO, 3 ~{INT}, 4 VSS, 5 SDA, 6 SCL, 7 CLKOUT, 8 VDD

## PSM712-LF-T7_[C32677]
designator U?, comment PSM712-LF-T7
TVS; ComponentLink1Description: 供应商链接; ComponentLink1URL: http://www.szlcsc.com/product/details_33642.html; Package: SOT-23(SOT-23-3); Supplier: LC; SuppliersPartNumber: C32677
footprint SOT-23(SOT-23-3)
pins: 1, 2, 3

## SMF05CT1G_[C15879]
designator U?, comment SMF05CT1G
TVS; ComponentLink1Description: 供应商链接; ComponentLink1URL: http://www.szlcsc.com/product/details_16561.html; Package: SC-70-6(SOT-363); Supplier: LC; SuppliersPartNumber: C15879
footprint SC-70-6(SOT-363)
pins: 1, 2, 3, 4, 5, 6

## SN74LVC4245APWRG4_[C7859]
designator U?, comment SN74LVC4245APWRG4
74系列逻辑芯片; ComponentLink1Description: 供应商链接; ComponentLink1URL: http://www.szlcsc.com/product/details_8336.html; Package: TSSOP-24; Supplier: LC; SuppliersPartNumber: C7859
footprint TSSOP-24
pins: 1 (5 V) VCCA, 2 DIR, 3 A1, 4 A2, 5 A3, 6 A4, 7 A5, 8 A6, 9 A7, 10 A8, 11 GND, 12 GND, 13 GND, 14 B8, 15 B7, 16 B6, 17 B5, 18 B4, 19 B3, 20 B2, 21 B1, 22 ~{OE}, 23 VCCB (3.3 V) , 24 VCCB (3.3 V) 

## SN75176BDR_[C7063]
designator U?, comment SN75176BDR
RS-485/RS-422; ComponentLink1Description: 供应商链接; ComponentLink1URL: http://www.szlcsc.com/product/details_7535.html; Package: SOIC-8_150mil; Supplier: LC; SuppliersPartNumber: C7063
footprint SOIC-8_150mil
pins: 1 RO (out), 2 ~{RE} (in), 3 DE (in), 4 DI (in), 5 GND (power), 6 A (io), 7 ~{B} (io), 8 VCC (power)

## SP485EEN-L/TR_[C6855]
designator U?, comment SP485EEN-L/TR
RS-485/RS-422; ComponentLink1Description: 供应商链接; ComponentLink1URL: http://www.szlcsc.com/product/details_7327.html; Package: SOIC-8; Supplier: LC; SuppliersPartNumber: C6855
footprint SOIC-8_150mil
pins: 1 RO (out), 2 ~{RE} (in), 3 DE (in), 4 DI (in), 5 GND (power), 6 A (io), 7 ~{B} (io), 8 VCC (power)

## SP3232EEY-L/TR_[C13482]
designator U?, comment SP3232EEY-L/TR
RS232; ComponentLink1Description: 供应商链接; ComponentLink1URL: http://www.szlcsc.com/product/details_14131.html; Package: TSSOP-16; Supplier: LC; SuppliersPartNumber: C13482
footprint TSSOP-16
pins: 1 C1+, 2 V+ (power), 3 C1-, 4 C2+, 5 C2-, 6 V- (power), 7 T2OUT (out), 8 R2IN (in), 9 R2OUT (out), 10 T2IN (in), 11 T1IN (in), 12 R1OUT (out), 13 R1IN (in), 14 T1OUT (out), 15 GND (power), 16 VCC (power)

## SP3485EN-L/TR_[C8963]
designator U?, comment SP3485EN-L/TR
RS-485/RS-422; ComponentLink1Description: 供应商链接; ComponentLink1URL: http://www.szlcsc.com/product/details_9482.html; Package: SOIC-8; Supplier: LC; SuppliersPartNumber: C8963
footprint SOIC-8_150mil
pins: 1 RO (out), 2 ~{RE} (in), 3 DE (in), 4 DI (in), 5 GND (power), 6 A (io), 7 ~{B} (io), 8 VCC (power)

## SRV05-4-P-T7_[C85364]
designator U?, comment SRV05-4-P-T7
TVS; ComponentLink1Description: 供应商链接; ComponentLink1URL: http://www.szlcsc.com/product/details_86537.html; Package: SOT-23-6; Supplier: LC; SuppliersPartNumber: C85364
footprint SOT-23-6
pins: 1 I/O , 2 GND, 3 I/O, 4 I/O, 5 REF, 6 I/O

## TL072CDT_[C6961]
designator U?, comment TL072CDT
运放; ComponentLink1Description: 供应商链接; ComponentLink1URL: http://www.szlcsc.com/product/details_7433.html; Package: SOIC-8_150mil; Supplier: LC; SuppliersPartNumber: C6961
footprint SOIC-8_150mil
pins on every part: 4 V- (power), 8 V+ (power)
part A pins: 1 OUT (out), 2 IN- (in), 3 IN+ (in)
part B pins: 5 IN+ (in), 6 IN- (in), 7 OUT (out)

## TL494CDR_[C19882]
designator U?, comment TL494CDR
开关电源; ComponentLink1Description: 供应商链接; ComponentLink1URL: http://www.szlcsc.com/product/details_20591.html; Package: SOIC-16_150mil; Supplier: LC; SuppliersPartNumber: C19882
footprint SOIC-16_150mil
pins: 1 IN1+ (in), 2 IN1- (in), 3 CMPEN (in), 4 DTC (in), 5 CT, 6 RT, 7 GND (power), 8 C1, 9 E1, 10 E2, 11 C2, 12 VCC (power), 13 CNTLO (in), 14 VREF (out), 15 IN2- (in), 16 IN2+ (in)

## TM1620_[C19579]
designator U?, comment TM1620
LED驱动; ComponentLink1Description: 供应商链接; ComponentLink1URL: http://www.szlcsc.com/product/details_20288.html; Package: SOIC-20_300mil; Supplier: LC; SuppliersPartNumber: C19579
footprint SOIC-20_300mil
pins: 1 VDD, 2 SEG1, 3 SEG2, 4 SEG3, 5 SEG4, 6 SEG5, 7 SEG6, 8 SEG7, 9 SEG8, 10 GRID6, 11 GRID5, 12 GND, 13 GRID4, 14 GRID3, 15 GND, 16 GRID2, 17 GRID1, 18 DIN, 19 CLK, 20 STB

## TM1638_[C19187]
designator U?, comment TM1638
LED驱动; ComponentLink1Description: 供应商链接; ComponentLink1URL: http://www.szlcsc.com/product/details_19892.html; Package: SOIC-28_300mil; Supplier: LC; SuppliersPartNumber: C19187
footprint SOIC-28_300mil
pins: 1 K1, 2 K2, 3 K3, 4 VDD, 5 SEG1/KS1, 6 SEG2/KS2, 7 SEG3/KS3, 8 SEG4/KS4, 9 SEG5/KS5, 10 SEG6/KS6, 11 SEG7/KS7, 12 SEG8/KS8, 13 SEG9, 14 SEG10, 15 VDD, 16 GR8, 17 GR7, 18 GND, 19 GR6, 20 GR5, 21 GR4, 22 GR3, 23 GR2, 24 GR1, 25 GND, 26 DIO, 27 CLK, 28 STB

## TM1640_[C41327]
designator U?, comment TM1640
LED驱动; ComponentLink1Description: 供应商链接; ComponentLink1URL: http://www.szlcsc.com/product/details_42311.html; Package: SOP-28_300mil; Supplier: LC; SuppliersPartNumber: C41327
footprint SOP-28_300mil
pins: 1 GRID12, 2 GRID13, 3 GRID14, 4 GRID15, 5 GRID16, 6 VSS, 7 DIN, 8 SCLK, 9 SEG1, 10 SEG2, 11 SEG3, 12 SEG4, 13 SEG5, 14 SEG6, 15 SEG7, 16 SEG8, 17 VDD, 18 GRID1, 19 GRID2, 20 GRID3, 21 GRID4, 22 GRID5, 23 GRID6, 24 GRID7, 25 GRID8, 26 GRID9, 27 GRID10, 28 GRID11

## TP4054_[C32574]
designator U?, comment TP4054
电池电源管理; ComponentLink1Description: 供应商链接; ComponentLink1URL: http://www.szlcsc.com/product/details_33539.html; Package: SOT-23-5; Supplier: LC; SuppliersPartNumber: C32574
footprint SOT-23-5
pins: 1 ~{GHRG}, 2 GND, 3 BAT, 4 VCC, 5 PROG

## TP4056_[C16581]
designator U?, comment TP4056
电池电源管理; ComponentLink1Description: 供应商链接; ComponentLink1URL: http://www.szlcsc.com/product/details_17264.html; Package: SOP-8_EP_150mil; Supplier: LC; SuppliersPartNumber: C16581
footprint SOP-8_EP_150mil
pins: 1 TEMP, 2 PROG, 3 GND, 4 VCC, 5 BAT, 6 ~{STDBY}, 7 ~{CHRG}, 8 CE

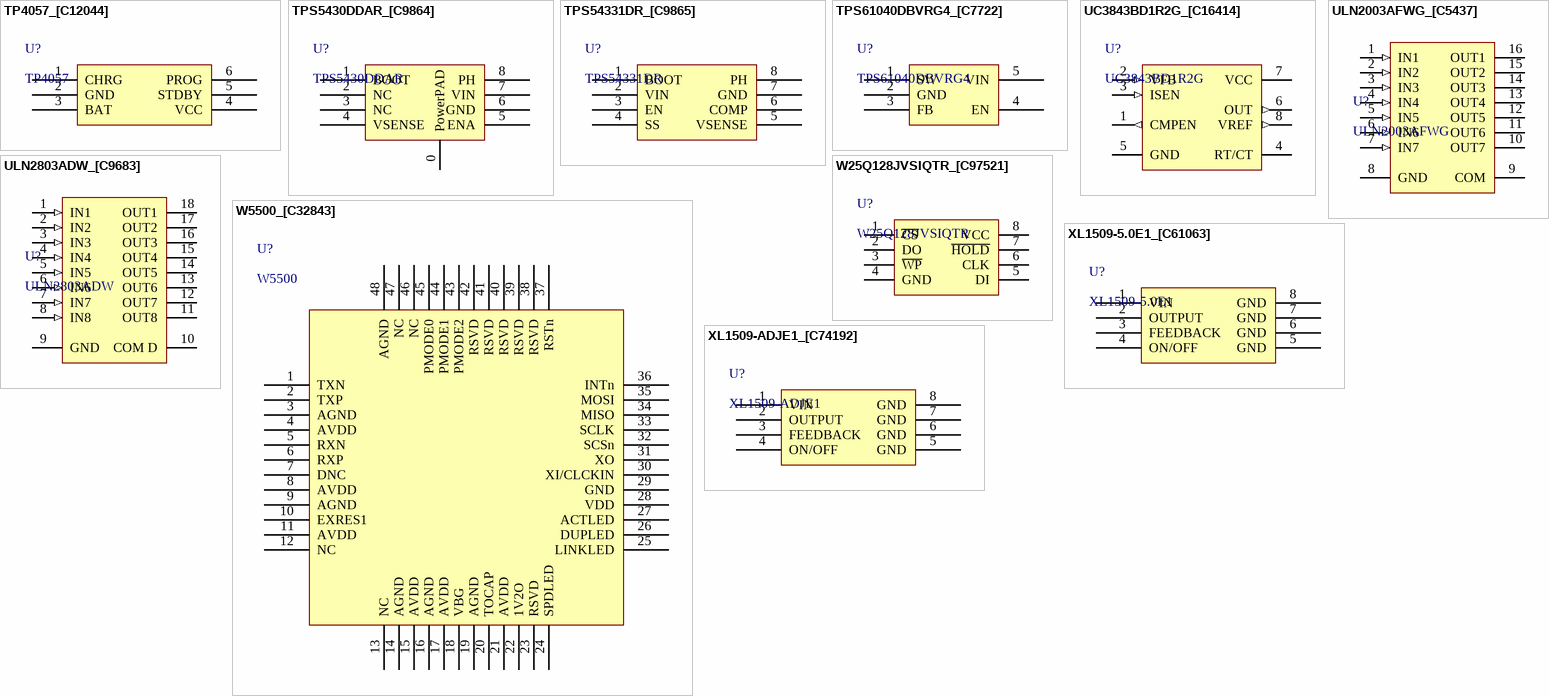
[diagram p3: symbols TP4057_[C12044] to XL1509-ADJE1_[C74192]]

## TP4057_[C12044]
designator U?, comment TP4057
电池电源管理; ComponentLink1Description: 供应商链接; ComponentLink1URL: http://www.szlcsc.com/product/details_12599.html; Package: SOT-23-6; Supplier: LC; SuppliersPartNumber: C12044
footprint SOT-23-6
pins: 1 CHRG, 2 GND, 3 BAT, 4 VCC, 5 STDBY, 6 PROG

## TPS5430DDAR_[C9864]
designator U?, comment TPS5430DDAR
DC-DC芯片; Notepad: 0 pin:        GND pin must be connected to the exposed pad for proper operation.; ComponentLink1Description: 供应商链接; ComponentLink1URL: http://www.szlcsc.com/product/details_10396.html; Package: SOP-8_EP_150mil; Supplier: LC; SuppliersPartNumber: C9864
footprint SOP-8_EP_150mil
pins: 0 PowerPAD, 1 BOOT, 2 NC, 3 NC, 4 VSENSE, 5 ENA, 6 GND, 7 VIN, 8 PH

## TPS54331DR_[C9865]
designator U?, comment TPS54331DR
DC-DC芯片; ComponentLink1Description: 供应商链接; ComponentLink1URL: http://www.szlcsc.com/product/details_10397.html; Package: SOIC-8_150mil; Supplier: LC; SuppliersPartNumber: C9865
footprint SOIC-8_150mil
pins: 1 BOOT, 2 VIN, 3 EN, 4 SS, 5 VSENSE, 6 COMP, 7 GND, 8 PH

## TPS61040DBVRG4_[C7722]
designator U?, comment TPS61040DBVRG4
DC-DC芯片; ComponentLink1Description: 供应商链接; ComponentLink1URL: http://www.szlcsc.com/product/details_8199.html; Package: SOT-23-5; Supplier: LC; SuppliersPartNumber: C7722
footprint SOT-23-5
pins: 1 SW, 2 GND, 3 FB, 4 EN, 5 VIN

## UC3843BD1R2G_[C16414]
designator U?, comment UC3843BD1R2G
开关电源; ComponentLink1Description: 供应商链接; ComponentLink1URL: http://www.szlcsc.com/product/details_17096.html; Package: SOIC-8_150mil; Supplier: LC; SuppliersPartNumber: C16414
footprint SOIC-8_150mil
pins: 1 CMPEN (out), 2 VFB (in), 3 ISEN (in), 4 RT/CT, 5 GND (power), 6 OUT (out), 7 VCC (power), 8 VREF (out)

## ULN2003AFWG_[C5437]
designator U?, comment ULN2003AFWG
大电流驱动; ComponentLink1Description: 供应商链接; ComponentLink1URL: http://www.szlcsc.com/product/details_5880.html; Package: SOIC-16_150mil; Supplier: LC; SuppliersPartNumber: C5437
footprint SOIC-16_150mil
pins: 1 IN1 (in), 2 IN2 (in), 3 IN3 (in), 4 IN4 (in), 5 IN5 (in), 6 IN6 (in), 7 IN7 (in), 8 GND (power), 9 COM, 10 OUT7 (oc), 11 OUT6 (oc), 12 OUT5 (oc), 13 OUT4 (oc), 14 OUT3 (oc), 15 OUT2 (oc), 16 OUT1 (oc)

## ULN2803ADW_[C9683]
designator U?, comment ULN2803ADW
大电流驱动; ComponentLink1Description: 供应商链接; ComponentLink1URL: http://www.szlcsc.com/product/details_10213.html; Package: SOIC-18_300mil; Supplier: LC; SuppliersPartNumber: C9683
footprint SOIC-18_300mil
pins: 1 IN1 (in), 2 IN2 (in), 3 IN3 (in), 4 IN4 (in), 5 IN5 (in), 6 IN6 (in), 7 IN7 (in), 8 IN8 (in), 9 GND (power), 10 COM D, 11 OUT8 (oc), 12 OUT7 (oc), 13 OUT6 (oc), 14 OUT5 (oc), 15 OUT4 (oc), 16 OUT3 (oc), 17 OUT2 (oc), 18 OUT1 (oc)

## W25Q128JVSIQTR_[C97521]
designator U?, comment W25Q128JVSIQTR
Flash ROM; ComponentLink1Description: 供应商链接; ComponentLink1URL: https://item.szlcsc.com/98729.html; Package: SOIC-8; Supplier: LC; SuppliersPartNumber: C97521
footprint SOIC-8_208mil
pins: 1 ~{CS}, 2 DO, 3 ~{WP}, 4 GND, 5 DI, 6 CLK, 7 ~{HOLD}, 8 VCC

## W5500_[C32843]
designator U?, comment W5500
以太网; ComponentLink1Description: 供应商链接; ComponentLink1URL: http://www.szlcsc.com/product/details_33808.html; Package: LQFP-48_7x7x05P; Supplier: LC; SuppliersPartNumber: C32843
footprint LQFP-48_7x7x05P
pins: 1 TXN, 2 TXP, 3 AGND, 4 AVDD, 5 RXN, 6 RXP, 7 DNC, 8 AVDD, 9 AGND, 10 EXRES1, 11 AVDD, 12 NC, 13 NC, 14 AGND, 15 AVDD, 16 AGND, 17 AVDD, 18 VBG, 19 AGND, 20 TOCAP, 21 AVDD, 22 1V2O, 23 RSVD, 24 SPDLED, 25 LINKLED, 26 DUPLED, 27 ACTLED, 28 VDD, 29 GND, 30 XI/CLCKIN, 31 XO, 32 SCSn, 33 SCLK, 34 MISO, 35 MOSI, 36 INTn, 37 RSTn, 38 RSVD, 39 RSVD, 40 RSVD, 41 RSVD, 42 RSVD, 43 PMODE2, 44 PMODE1, 45 PMODE0, 46 NC, 47 NC, 48 AGND

## XL1509-5.0E1_[C61063]
designator U?, comment XL1509-5.0E1
DC-DC芯片; ComponentLink1Description: 供应商链接; ComponentLink1URL: http://www.szlcsc.com/product/details_62115.html; Package: SOP-8_150mil; Supplier: LC; SuppliersPartNumber: C61063
footprint SOP-8_150mil
pins: 1 VIN , 2 OUTPUT , 3 FEEDBACK , 4 ON/OFF , 5  GND, 6  GND, 7 GND, 8 GND

## XL1509-ADJE1_[C74192]
designator U?, comment XL1509-ADJE1
DC-DC芯片; ComponentLink1Description: 供应商链接; ComponentLink1URL: http://www.szlcsc.com/product/details_75311.html; Package: SOP-8_150mil; Supplier: LC; SuppliersPartNumber: C74192
footprint SOP-8_150mil
pins: 1 VIN , 2 OUTPUT , 3 FEEDBACK , 4 ON/OFF , 5  GND, 6  GND, 7 GND, 8 GND